# Altium footprint library Spinn5Power.PcbLib: 5 footprints
Each footprint in its own frame and in the unit in brackets; x right, y up, seen from the top. Pads: shape width x height; smd on the part's side, far side on the other; paste and mask are expansions set on the pad; w line width, h text height; cw(c..) or ccw(c..) is an arc to the next point about the centre after c.
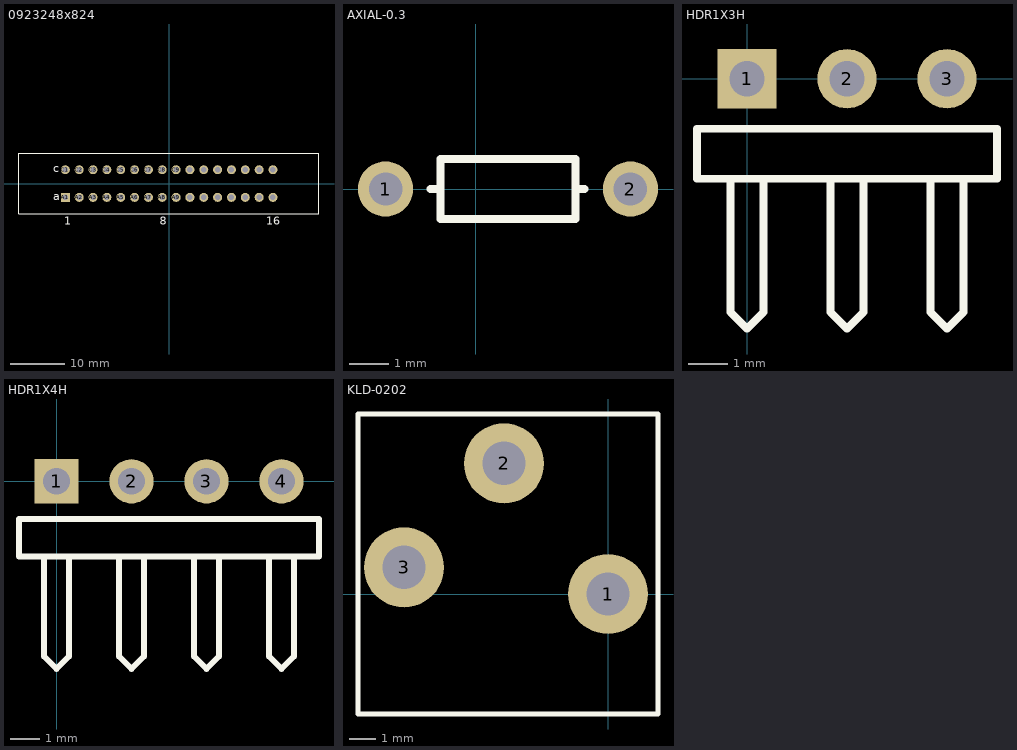
[diagram p0: the footprints below, top view; thin cyan lines are the x and y axes]

## 0923248x824 [mm] "Connector; DIN 41612, Type 2C, Thru-Hole; Rows a+b+c, 48 Position; Vertical"
height 11.6
pads (32):
  rect 1.65x1.65 hole 1: A1(-19.05,-2.54)
  round 1.65 hole 1: A2(-16.51,-2.54) A3(-13.97,-2.54) A4(-11.43,-2.54) A5(-8.89,-2.54) A6(-6.35,-2.54) A7(-3.81,-2.54) A8(-1.27,-2.54) A9(1.27,-2.54) A10(3.81,-2.54) A11(6.35,-2.54) A12(8.89,-2.54) A13(11.43,-2.54) A14(13.97,-2.54) A15(16.51,-2.54) A16(19.05,-2.54) C1(-19.05,2.54) C2(-16.51,2.54) C3(-13.97,2.54) C4(-11.43,2.54) C5(-8.89,2.54) C6(-6.35,2.54) C7(-3.81,2.54) C8(-1.27,2.54) C9(1.27,2.54) C10(3.81,2.54) C11(6.35,2.54) C12(8.89,2.54) C13(11.43,2.54) C14(13.97,2.54) C15(16.51,2.54) C16(19.05,2.54)
Top Overlay:
  lines w0.2: 27.5,5.461 27.5,-5.55 -27.559,-5.55 -27.559,5.55 27.5,5.55
  text "1" at -19.3,-7.55 h1.5
  text "a" at -21.26,-3.04 h1.5
  text "c" at -21.26,2.04 h1.5
  text "8" at -1.77,-7.55 h1.5
  text "16" at 17.8,-7.55 h1.5
3D body: height 11.59, standoff -4.51, extent -27.559,-5.293 27.441,5.207

## AXIAL-0.3 [mm] "Axial Device, Thru-Hole; 2 Leads; 0.3 in Pin Spacing"
height 1.524
pads (2):
  round 1.4 hole 0.85: 1(-2.286,0) 2(3.937,0)
Top Overlay:
  lines w0.2: -1.143,0 -0.914,0 ; 2.769,0 2.54,0 ; 2.54,0 2.54,0.762 -0.889,0.762 -0.889,-0.762 2.54,-0.762 2.54,0
3D body: height 1.75, standoff -1.3, extent -2.661,-1.05 4.439,1.05

## HDR1X3H [mm] "Connector; Header; 3 Position; Right Angle"
pads (3):
  rect 1.5x1.5 hole 0.9: 1(0,0)
  round 1.5 hole 0.9: 2(2.54,0) 3(5.08,0)
Top Overlay:
  lines w0.2: -0.423,-2.54 -0.423,-5.927 0,-6.35 0.423,-5.927 0.423,-2.54 ; 2.117,-2.54 2.117,-5.927 2.54,-6.35 2.963,-5.927 2.963,-2.54 ; 4.657,-2.54 4.657,-5.927 5.08,-6.35 5.503,-5.927 5.503,-2.54 ; -1.27,-2.54 6.35,-2.54 6.35,-1.27 -1.27,-1.27 -1.27,-2.54
3D body: height 6.33, standoff -3.39, extent -0.96,-10.125 6.04,3.175

## HDR1X4H [mm] "Connector; Header; 4 Position; Right Angle"
pads (4):
  rect 1.5x1.5 hole 0.9: 1(0,0)
  round 1.5 hole 0.9: 2(2.54,0) 3(5.08,0) 4(7.62,0)
Top Overlay:
  lines w0.2: -0.423,-2.54 -0.423,-5.927 0,-6.35 0.423,-5.927 0.423,-2.54 ; 2.117,-2.54 2.117,-5.927 2.54,-6.35 2.963,-5.927 2.963,-2.54 ; 4.657,-2.54 4.657,-5.927 5.08,-6.35 5.503,-5.927 5.503,-2.54 ; 7.197,-2.54 7.197,-5.927 7.62,-6.35 8.043,-5.927 8.043,-2.54 ; -1.27,-2.54 -1.27,-1.27 8.89,-1.27 8.89,-2.54 -1.27,-2.54
3D body: height 5.01, standoff -2.89, extent -1.397,-12.827 8.763,0.291

## KLD-0202 [mil] "DC Power Jack, 2.5mm, KLD Series, PCB Mount"
pads (3):
  round 120 hole 65: 1(0,0) 2(-156,196) 3(-306,40)
Top Overlay:
  lines w7.87: -375,-180 75,-180 75,270 -375,270 -375,-180
3D body: height 662.69, standoff -157.51, extent -366.99,-171.99 67,262